# Altium integrated library SMA_Con.IntLib: 2 symbols
Pins are listed as number, name and electrical type; pins without a type are passive.

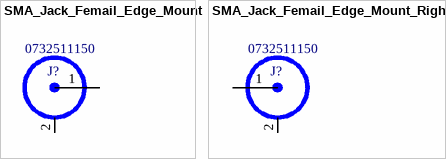
[diagram p0: symbols SMA_Jack_Femail_Edge_Mount to SMA_Jack_Femail_Edge_Mount_Right]

## SMA_Jack_Femail_Edge_Mount
designator J?  value 0732511150  (hidden comment: *)
Molex CONN SMA RCPT STR 50OHM EDGE MNT 18 GHz; FREQUENCY: DC to 18 GHz (Standard); VOLTAGE: 500 Vrms at Sea Level; RF Leakage: -100dB; Supplier 1: Digi-Key; Manufacturer: Molex; Manufacturer No: 0732511150; ComponentLink2URL: https://www.molex.com/pdm_docs/ps/PS-89675-346.pdf; Supplier Part Number 1: WM5534-ND; ComponentLink1URL: https://www.molex.com/pdm_docs/sd/732511150_sd.pdf; ComponentLink2Description: PRODUCT SPECIFICATION; ComponentLink1Description: PRODUCT CUSTOMER DRAWING
footprint SMA_Molex_board_edge (CONN SMA RCPT STR 50OHM EDGE MNT)
footprint SMA Huber and Suhner (Coaxial PCB Connector  82_SMA-50-0-1/111_N 18 GHz 50 Ohm)
pins: 1, 2

## SMA_Jack_Femail_Edge_Mount_Right
designator J?  value 0732511150  (hidden comment: *)
Molex CONN SMA RCPT STR 50OHM EDGE MNT 18 GHz; RF Leakage: -100dB; FREQUENCY: DC to 18 GHz (Standard); VOLTAGE: 500 Vrms at Sea Level; Supplier 1: Digi-Key; Manufacturer: Molex; Manufacturer No: 0732511150; ComponentLink1Description: PRODUCT CUSTOMER DRAWING; Supplier Part Number 1: WM5534-ND; ComponentLink1URL: https://www.molex.com/pdm_docs/sd/732511150_sd.pdf; ComponentLink2URL: https://www.molex.com/pdm_docs/ps/PS-89675-346.pdf; ComponentLink2Description: PRODUCT SPECIFICATION
footprint SMA_Molex_board_edge (CONN SMA RCPT STR 50OHM EDGE MNT)
footprint SMA Huber and Suhner (Coaxial PCB Connector  82_SMA-50-0-1/111_N 18 GHz 50 Ohm)
pins: 1, 2